# Altium integrated library Jumpers.IntLib: 2 symbols
Pins are listed as number, name and electrical type; pins without a type are passive.

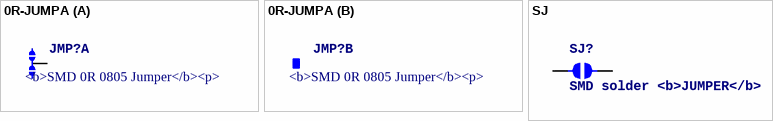
[diagram p0: symbols 0R-JUMPA to SJ]

## 0R-JUMPA
designator JMP?, comment <b>SMD 0R 0805 Jumper</b><p>
footprint A0R-JMP
part A pins: 1, 2, 3

## SJ
designator SJ?, comment SMD solder <b>JUMPER</b>
footprint SJ (SMD Jumper)
footprint SJW (SMD Jumper Wide)
pins: 1, 2